# Altium footprint library RF_Antenna.PcbLib: 18 footprints (part 1 of 2)
Each footprint in its own frame and in the unit in brackets; x right, y up, seen from the top. Pads: shape width x height; smd on the part's side, far side on the other; paste and mask are expansions set on the pad; w line width, h text height; cw(c..) or ccw(c..) is an arc to the next point about the centre after c.
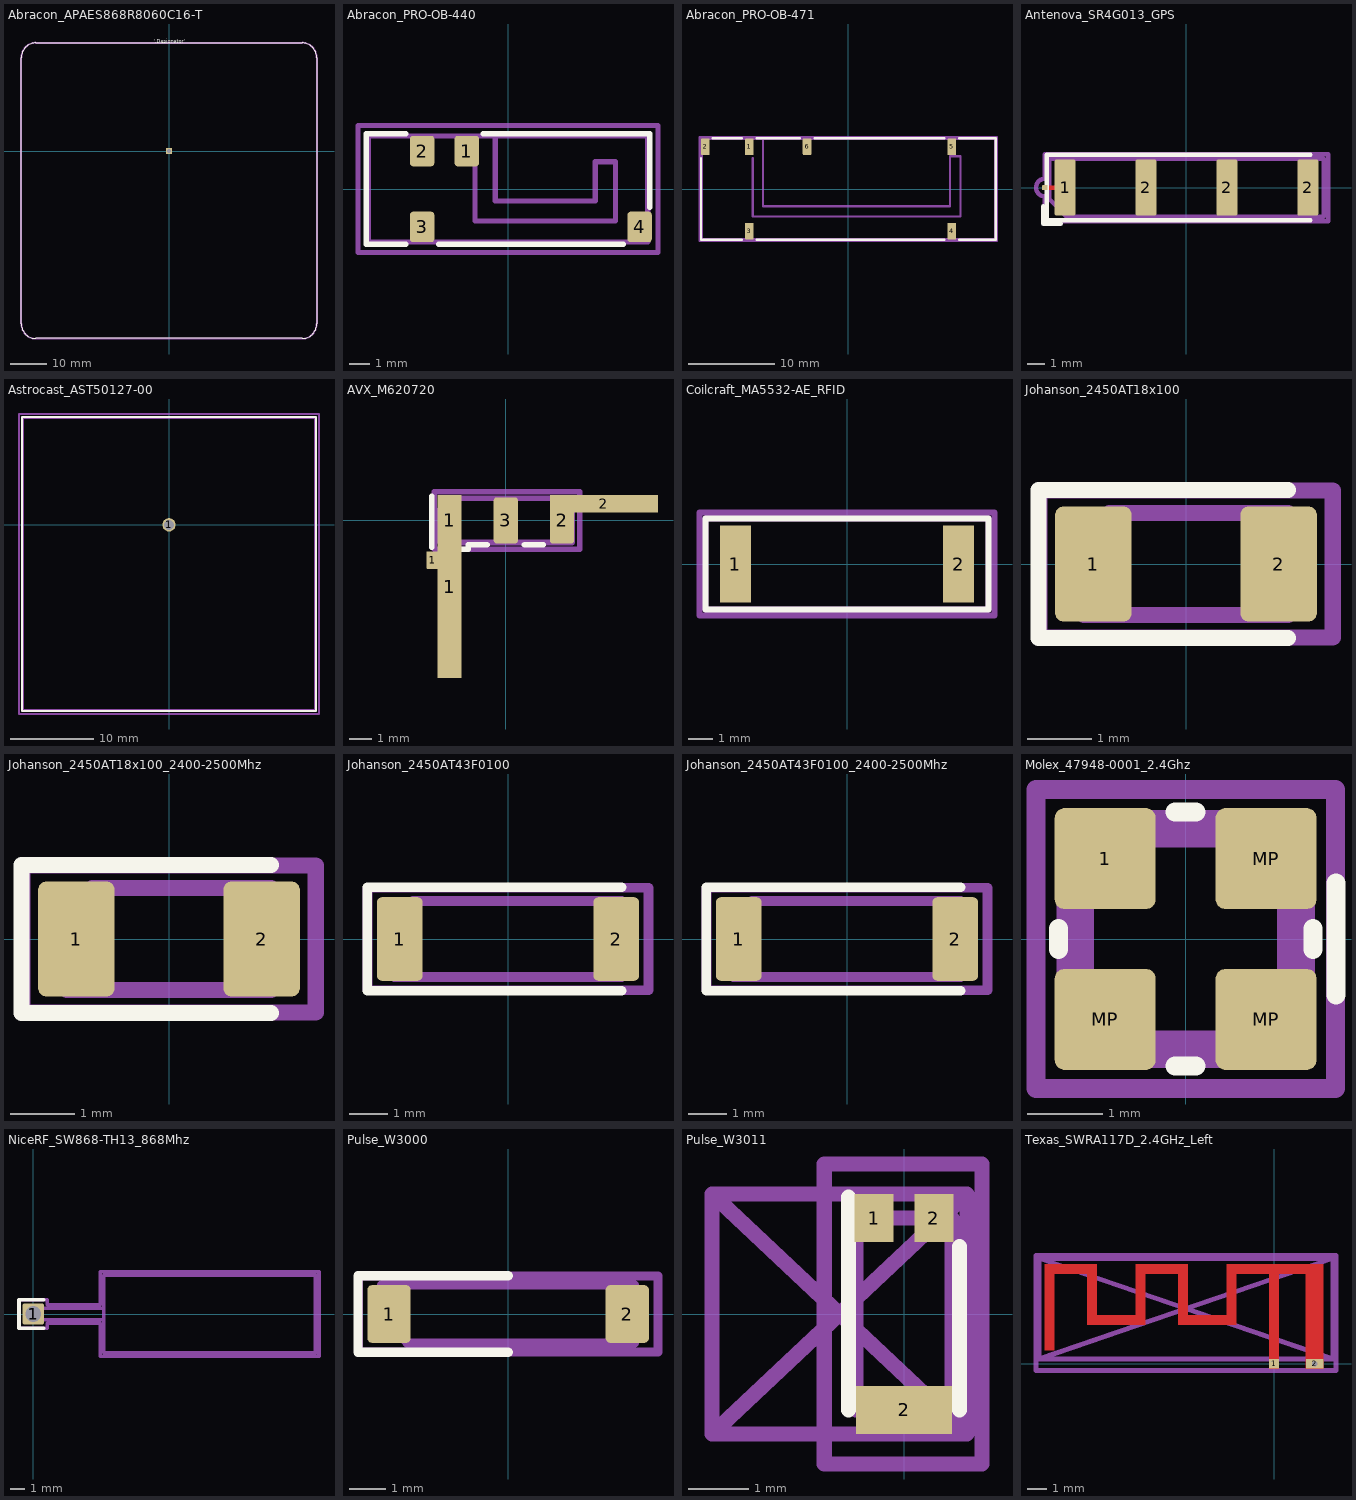
[diagram p0: the footprints below, top view; thin cyan lines are the x and y axes]

## Abracon_APAES868R8060C16-T [mm]
pads (1):
  rrect25% 1.7x1.7 hole 1.1: 1(0,0)
F.SilkS:
  lines w0.254: -41.1,-48 -41.1,26 cw(c-37,26) -37,30.1 37,30.1 cw(c37,26) 41.1,26 41.1,-48 cw(c37,-48) 37,-52.1 -37,-52.1 cw(c-37,-48) -41.1,-48
  text "'.Designator'" at -4.174,30.197 h1
F.Fab:
  lines w0.254: -41,-48 -41,26 cw(c-37,26) -37,30 37,30 cw(c37,26) 41,26 41,-48 cw(c37,-48) 37,-52 -37,-52 cw(c-37,-48) -41,-48
F.CrtYd:
  lines w0.254: -41.25,-48 -41.25,26 cw(c-37,26) -37,30.25 37,30.25 cw(c37,26) 41.25,26 41.25,-48 cw(c37,-48) 37,-52.25 -37,-52.25 cw(c-37,-48) -41.25,-48

## Abracon_PRO-OB-440 [mm]
pads (4):
  rrect25% 1.2x1.5 smd: 1(-2.025,1.865) 2(-4.225,1.865) 3(-4.225,-1.865) 4(6.475,-1.865)
F.SilkS:
  lines w0.254: -5.025,-2.715 -6.975,-2.715 -6.975,2.715 -5.025,2.715 ; -3.425,-2.715 5.675,-2.715 ; -1.225,2.715 6.975,2.715 6.975,-0.915
F.Fab:
  lines w0.254: -1.625,2.615 -1.625,-1.569 5.29,-1.569 5.29,1.34 4.29,1.34 4.29,-0.585 -0.625,-0.585 -0.625,2.615 ; -6.875,-2.615 -6.875,2.615 6.875,2.615 6.875,-2.615 -6.875,-2.615
  text "'.Designator'" at -2.072,-0.065 h1
F.CrtYd:
  lines w0.254: -7.38,-3.12 -7.38,3.12 7.38,3.12 7.38,-3.12 -7.38,-3.12

## Abracon_PRO-OB-471 [mm]
pads (6):
  rrect25% 1x1.95 smd: 1(-11.5,4.9) 2(-16.6,4.9) 3(-11.5,-4.9) 4(12,-4.9) 5(12,4.9) 6(-4.8,4.9)
F.SilkS:
  lines w0.254: -17.1,3.6 -17.1,-5.9 -12.35,-5.9 ; -15.75,5.9 -12.35,5.9 ; -10.65,-5.9 11.15,-5.9 ; -10.65,5.9 -5.65,5.9 ; -3.95,5.9 11.15,5.9 ; 12.85,-5.9 17.1,-5.9 17.1,5.9 12.85,5.9
F.Fab:
  lines w0.254: -11.1,3.6 -11.1,-3.2 13,-3.2 13,3.8 11.8,3.8 11.8,-2 -9.9,-2 -9.9,5.8 ; -17,-5.8 -17,5.8 17,5.8 17,-5.8 -17,-5.8
  text "'.Designator'" at -4.047,1.72 h1
F.CrtYd:
  lines w0.254: -17.25,-6.05 -17.25,6.05 17.25,6.05 17.25,-6.05 -17.25,-6.05

## Antenova_SR4G013_GPS [mm]
pads (5):
  rrect21% 1.2x3.2 smd: 1(-6.9,0) 2(-2.3,0) 2(2.3,0) 2(6.9,0)
  rrect25% 0.3x0.3 smd: 2(-8.05,0)
F.Cu:
  lines w0.254: -8.05,0 -6.9,0
F.SilkS:
  lines w0.254: -8.15,-1.06 -8.15,-2.06 -7.15,-2.06 ; 7.05,-1.86 -7.95,-1.86 -7.95,1.86 7.05,1.86
F.Fab:
  lines w0.254: -7.8,-0.65 -7.8,1.65 7.8,1.65 7.8,-1.65 -6.8,-1.65 -7.8,-0.65
  text "'.Designator'" at -4.047,-0.84 h1
F.CrtYd:
  lines w0.254: -8.05,-1.9 -8.05,-0.5 cw(c-8.05,0) -8.05,0.5 -8.05,1.9 8.05,1.9 8.05,-1.9 -8.05,-1.9

## Astrocast_AST50127-00 [mm]
pads (1):
  round 1.6 hole 1.2: 1(0,0)
F.SilkS:
  lines w0.254: -17.62,-22.32 -17.62,12.92 17.62,12.92 17.62,-22.32 -17.62,-22.32
F.Mask:
  region: 17.51,0.01 17.49,0.01 17.49,0.05
  region: 17.5,-22.19 -17.5,-22.2 -17.49,0.01 -1.46,-0.01 -1.43,-0.23 -1.39,-0.41 -1.31,-0.6 -1.2,-0.8 -1.03,-1.03 -0.78,-1.22 -0.48,-1.37 -0.17,-1.44 0.23,-1.44 0.66,-1.3 1.02,-1.03 1.19,-0.82 1.33,-0.58 1.42,-0.33 1.44,-0.17 1.46,0.01 17.49,0.01
  region: 17.51,12.8 17.51,0.01 1.46,0.01 1.44,0.14 1.43,0.27 1.39,0.42 1.36,0.52 1.28,0.68 1.18,0.84 1.02,1.04 0.86,1.18 0.59,1.34 0.2,1.45 -0.14,1.46 -0.46,1.38 -0.66,1.3 -0.97,1.1 -1.15,0.91 -1.29,0.7 -1.39,0.46 -1.45,0.23 -1.46,0.01 -1.46,-0.01 -17.49,0.01 -17.51,12.81
F.Fab:
  lines w0.254: -17.5,-22.2 -17.5,12.8 17.5,12.8 17.5,-22.2 -17.5,-22.2
  text "'.Designator'" at -4.047,-5.54 h1
F.CrtYd:
  lines w0.254: -18,-22.7 -18,13.3 18,13.3 18,-22.7 -18,-22.7
Cmts.User:
  text "Antenna keepout" at -6.46,-6.077 h1

## AVX_M620720 [mm]
pads (6):
  rrect17% 0.6x0.8 smd: 1(-3.3,-1.8)
  rect 1.1x8.3 smd: 1(-2.55,-3)
  rrect23% 1.1x2.1 smd: 1(-2.55,0)
  rrect25% 1.1x2.1 smd: 2(2.55,0) 3(0,0)
  rect 4.9x0.8 smd: 2(4.45,0.75)
F.SilkS:
  lines w0.254: -3.36,-1.21 -3.36,1.09 ; -2.67,-1.31 -1.7,-1.31 -1.7,-1.1 -0.85,-1.1 ; 0.85,-1.1 1.7,-1.1
F.Fab:
  lines w0.254: -3,-1 -3,0.5 -2.5,1 3,1 3,-1 -3,-1
  text "'.Designator'" at -4.047,-0.84 h1
F.CrtYd:
  lines w0.254: -3.25,-1.3 -3.25,1.3 3.35,1.3 3.35,-1.3 -3.25,-1.3

## Coilcraft_MA5532-AE_RFID [mm]
pads (2):
  rect 1.3x3.2 smd: 1(-4.65,0) 2(4.65,0)
F.SilkS:
  lines w0.254: -5.9,-1.9 -5.9,1.9 5.9,1.9 5.9,-1.9 -5.9,-1.9
F.Fab:
  lines w0.254: -5.9,-1.9 -5.9,1.9 5.9,1.9 5.9,-1.9 -5.9,-1.9
  text "'.Designator'" at -4.047,-0.84 h1
F.CrtYd:
  lines w0.254: -6.15,-2.15 -6.15,2.15 6.15,2.15 6.15,-2.15 -6.15,-2.15

## Johanson_2450AT18x100 [mm]
pads (2):
  rrect21% 1.2x1.8 smd: 1(-1.45,0) 2(1.45,0)
F.SilkS:
  lines w0.254: 1.6,-1.16 -2.31,-1.16 -2.31,1.16 1.6,1.16
F.Fab:
  lines w0.254: -1.6,-0.8 -1.6,0.4 -1.2,0.8 1.6,0.8 1.6,-0.8 -1.6,-0.8
  text "'.Designator'" at -3.237,-0.672 h0.8
F.CrtYd:
  lines w0.254: -2.3,-1.15 -2.3,1.15 2.3,1.15 2.3,-1.15 -2.3,-1.15

## Johanson_2450AT18x100_2400-2500Mhz [mm]
pads (2):
  rrect21% 1.2x1.8 smd: 1(-1.45,0) 2(1.45,0)
F.SilkS:
  lines w0.254: 1.6,-1.16 -2.31,-1.16 -2.31,1.16 1.6,1.16
F.Fab:
  lines w0.254: -1.6,-0.8 -1.6,0.4 -1.2,0.8 1.6,0.8 1.6,-0.8 -1.6,-0.8
  text "'.Designator'" at -3.237,-0.672 h0.8
F.CrtYd:
  lines w0.254: -2.3,-1.15 -2.3,1.15 2.3,1.15 2.3,-1.15 -2.3,-1.15

## Johanson_2450AT43F0100 [mm]
pads (2):
  rrect21% 1.2x2.2 smd: 1(-2.85,0) 2(2.85,0)
F.SilkS:
  lines w0.254: 3,-1.36 -3.71,-1.36 -3.71,1.36 3,1.36
F.Fab:
  lines w0.254: -3,-1 -3,0.5 -2.5,1 3,1 3,-1 -3,-1
  text "'.Designator'" at -4.047,-0.84 h1
F.CrtYd:
  lines w0.254: -3.7,-1.35 -3.7,1.35 3.7,1.35 3.7,-1.35 -3.7,-1.35

## Johanson_2450AT43F0100_2400-2500Mhz [mm]
pads (2):
  rrect21% 1.2x2.2 smd: 1(-2.85,0) 2(2.85,0)
F.SilkS:
  lines w0.254: 3,-1.36 -3.71,-1.36 -3.71,1.36 3,1.36
F.Fab:
  lines w0.254: -3,-1 -3,0.5 -2.5,1 3,1 3,-1 -3,-1
  text "'.Designator'" at -4.047,-0.84 h1
F.CrtYd:
  lines w0.254: -3.7,-1.35 -3.7,1.35 3.7,1.35 3.7,-1.35 -3.7,-1.35

## Molex_47948-0001_2.4Ghz [mm]
pads (4):
  rrect19% 1.35x1.35 smd: 1(-1.075,1.075) MP(-1.075,-1.075) MP(1.075,-1.075) MP(1.075,1.075)
F.SilkS:
  lines w0.254: -1.7,-0.14 -1.7,0.14 ; -0.14,-1.7 0.14,-1.7 ; -0.14,1.7 0.14,1.7 ; 1.7,-0.14 1.7,0.14 ; 2.01,-0.75 2.01,0.75
F.Fab:
  lines w0.254: 1.35,-0.75 1.6,-0.75 ; 1.35,0.75 1.6,0.75 ; -1.6,-1.6 -1.6,1.6 1.6,1.6 1.6,-1.6 -1.6,-1.6 ; -1.35,-1.35 -1.35,1.35 1.35,1.35 1.35,-1.35 -1.35,-1.35
  text "'.Designator'" at -2.878,-0.633 h0.7
F.CrtYd:
  lines w0.254: -2,-2 -2,2 2,2 2,-2 -2,-2

## NiceRF_SW868-TH13_868Mhz [mm]
pads (1):
  rrect16% 1.5x1.5 hole 1.1: 1(0,0)
F.SilkS:
  lines w0.254: 0.75,-1.01 -1.01,-1.01 -1.01,1.01 0.75,1.01
F.Fab:
  lines w0.254: -0.4,-0.4 -0.4,0.4 5,0.4 5,-0.4 -0.4,-0.4 ; 5,-2.75 20,-2.75 20,2.75 5,2.75 5,-2.75
  text "'.Designator'" at 8.703,-0.84 h1
F.CrtYd:
  lines w0.254: -1,-1 -1,1 1,1 1,0.65 4.75,0.65 4.75,3 20.25,3 20.25,-3 4.75,-3 4.75,-0.65 1,-0.65 1,-1 -1,-1

## Pulse_W3000 [mm]
pads (2):
  rrect21% 1.2x1.6 smd: 1(-3.3,0) 2(3.3,0)
F.SilkS:
  lines w0.254: 0,-1.06 -4.16,-1.06 -4.16,1.06 0,1.06
F.Fab:
  lines w0.254: -3.5,-0.1 -3.5,0.8 3.5,0.8 3.5,-0.8 -2.8,-0.8 -3.5,-0.1
  text "'.Designator'" at -4.047,-0.84 h1
F.CrtYd:
  lines w0.254: -4.15,-1.05 -4.15,1.05 4.15,1.05 4.15,-1.05 -4.15,-1.05

## Pulse_W3011 [mm]
pads (3):
  rect 0.65x0.8 smd: 1(-0.5,1.6) 2(0.5,1.6)
  rect 1.6x0.8 smd: 2(0,-1.6)
F.SilkS:
  lines w0.254: -0.925,-1.6 -0.925,1.95 ; 0.925,-1.6 0.925,1.125
F.Fab:
  lines w0.254: -0.8,-1.6 -0.8,1.6 0.8,1.6 0.8,-1.6 -0.8,-1.6
  text "'.Designator'" at -1.149,-0.187 h0.3
F.CrtYd:
  lines w0.254: -1.33,-2.5 -1.33,2.5 1.3,2.5 1.3,-2.5 -1.33,-2.5
Dwgs.User:
  lines w0.254: -3.2,-2 -3.2,2 ; -3.2,-2 1.05,-2 ; -3.2,-2 1.05,2 ; -3.2,2 1.05,-2 ; -3.2,2 1.05,2 ; 1.05,-2 1.05,2
Cmts.User:
  text "on all layers" at -1.97,-1.24 h0.3
  text "No copper" at -2.47,-1.069 h0.3

## Texas_SWRA117D_2.4GHz_Left [mm]
pads (2):
  rect 0.5x0.5 smd: 1(0,0)
  rect 0.9x0.5 hole 0.3: 2(2.1,0)
F.Cu:
  region: 2.55,-0.007 2.55,-0.25 1.65,-0.25 1.65,4.65 0.25,4.65 0.25,-0.25 -0.25,-0.25 -0.25,4.65 -1.95,4.65 -1.95,2.01 -4.95,2.01 -4.95,4.65 -6.65,4.65 -6.65,2.01 -9.65,2.01 -9.65,4.65 -11.35,4.65 -11.35,0.71 -11.85,0.71 -11.85,5.15 -9.15,5.15 -9.15,2.51 -7.15,2.51 -7.15,5.15 -4.45,5.15 -4.45,2.51 -2.45,2.51 -2.45,5.15 2.55,5.15 hole: 2.107,0.148 2.058,0.141 2.012,0.121 1.977,0.089 1.96,0.056 1.952,0.008 1.958,-0.041 1.979,-0.087 2.013,-0.122 2.031,-0.132 2.077,-0.145 2.125,-0.146 2.168,-0.134 2.176,-0.13 2.214,-0.097 2.238,-0.054 2.248,-0.007 2.243,0.042 2.223,0.086 2.188,0.123 2.155,0.14
F.Fab:
  lines w0.254: -12.3,-0.35 -12.3,5.6 3.2,5.6 3.2,-0.35 -12.3,-0.35
  text "'.Designator'" at -8.597,5.56 h1
F.CrtYd:
  lines w0.254: -12.3,-0.35 -12.3,5.6 3.2,5.6 3.2,-0.35 -12.3,-0.35
Dwgs.User:
  lines w0.254: -12.15,0.25 -12.15,5.45 ; -12.15,0.25 3.05,5.45 ; -12.15,0.25 3.05,0.25 ; -12.15,5.45 3.05,5.45 ; -12.15,5.45 3.05,0.25 ; 3.05,0.25 3.05,5.45